# Altium schematic symbol library VO2223B.SchLib: 1 symbol
Pins are listed as number, name and electrical type; pins without a type are passive.

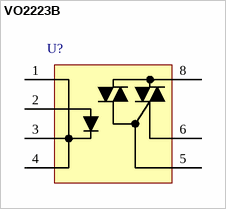
[diagram p0: symbol VO2223B]

## VO2223B
designator U?
Optocoupler, Power Phototriac
pins: 1 (power), 2 (power), 3 (power), 4 (power), 5 (power), 6 (power), 8 (power)